# EAGLE library part MC100EL31DG (library On Semiconductor)
Single Supply 3.0 V to 44 V Operational Amplifiers
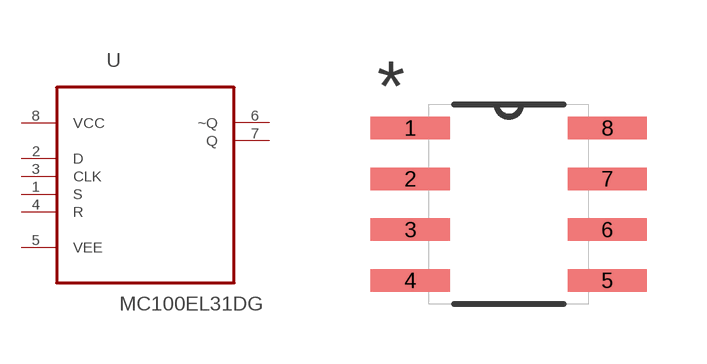
[diagram p82: symbol with the pads of SOIC127P600X175-8N; footprint SOIC127P600X175-8N]

Designator prefix U

## MC100EL31DG (MPN: MC33071ADG; OC_FARNELL: 1607707; OC_NEWARK: 98H0669; PACKAGE: SOIC-8; SUPPLIER: Onsemiconductor)  [SOIC127P600X175-8N]
1  S  in
2  D  in
3  CLK  in
4  R  in
5  VEE  pwr
6  ~Q  out
7  Q  out
8  VCC  pwr

## Footprint SOIC127P600X175-8N (pad centres in mm)
smd 1.981 x 0.559: 1 -2.464,1.905; 2 -2.464,0.635; 3 -2.464,-0.635; 4 -2.464,-1.905; 5 2.464,-1.905; 6 2.464,-0.635; 7 2.464,0.635; 8 2.464,1.905